# Altium integrated library Firefly_RevA.IntLib: 1 symbol
Pins are listed as number, name and electrical type; pins without a type are passive.

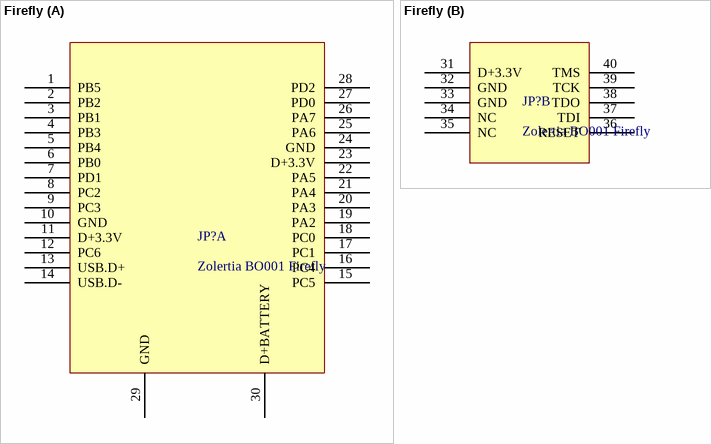
[diagram p0: symbol Firefly]

## Firefly
designator JP?, comment Zolertia BO001 Firefly
Supplied by: Zolertia; Mounted: Yes; Value: *
footprint Firefly
footprint Firefly_JTAG
part A pins: 1 PB5, 2 PB2, 3 PB1, 4 PB3, 5 PB4, 6 PB0, 7 PD1, 8 PC2, 9 PC3, 10 GND, 11 D+3.3V, 12 PC6, 13 USB.D+, 14 USB.D-, 15 PC5, 16 PC4, 17 PC1, 18 PC0, 19 PA2, 20 PA3, 21 PA4, 22 PA5, 23 D+3.3V, 24 GND, 25 PA6, 26 PA7, 27 PD0, 28 PD2, 29 GND, 30 D+BATTERY
part B pins: 31 D+3.3V, 32 GND, 33 GND, 34 NC, 35 NC, 36 RESET, 37 TDI, 38 TDO, 39 TCK, 40 TMS